# EAGLE library part TJA1050 (library bytewerk-network)
High Speed CAN-Tranceiver - SilentMode
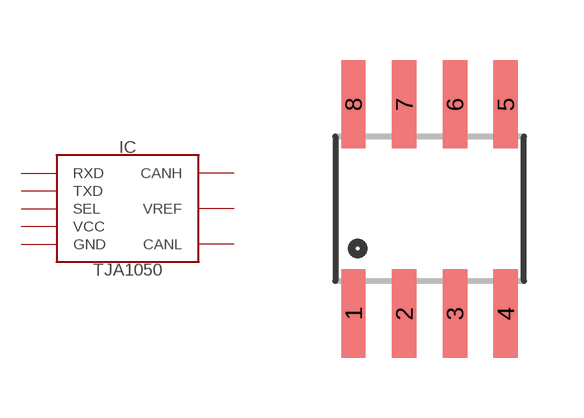
[diagram p4: symbol with the pads of SO08; footprint SO08]

Designator prefix IC

## TJA1050  [SO08]
1  TXD  in
2  GND  pwr
3  VCC  pwr
4  RXD  out
5  VREF  out
6  CANL
7  CANH
8  SEL  in

## Footprint SO08 (pad centres in mm)
Small Outline Package Fits JEDEC packages (narrow SOIC-8)
smd 0.61 x 2.21: 1 -1.905,-2.616; 2 -0.635,-2.616; 3 0.635,-2.616; 4 1.905,-2.616; 5 1.905,2.616; 6 0.635,2.616; 7 -0.635,2.616; 8 -1.905,2.616